# EAGLE library part WEH002002ALPP (library 000_nl2)
Winstar OLED Display This is a 20x2 OLED display from Winstar described here <http://www.winstar.com.tw/products_detail_ov.php?lang=en&ProID=289>. It can be purchased from Rapid Online here <http://www.rapidonline.com/electronic-components/20x2-oled-display-yellow-57-2300>. This variant is used to view the display through a milled window in the PCB.
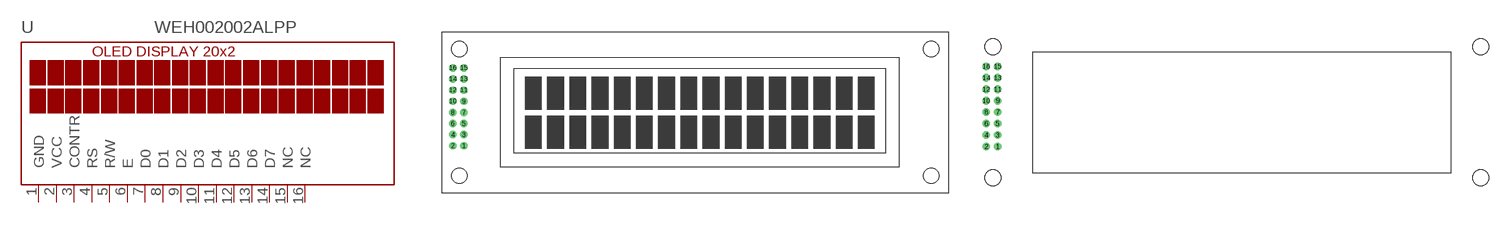
[diagram p19: symbol with the pads of 20X02_OLED_DISPLAY; footprints 20X02_OLED_DISPLAY, 20X02_OLED_DISPLAY_CUTOUT]

Designator prefix -

## WEH002002ALPP_TOP  [20X02_OLED_DISPLAY]
1  GND  pwr
2  VCC  pwr
3  CONTR  in
4  RS  in
5  R/W  in
6  E  in
7  D0  in
8  D1  in
9  D2  in
10  D3  in
11  D4  in
12  D5  in
13  D6  in
14  D7  in
15  NC  nc
16  NC  nc

## WEH002002ALPP_BOTTOM  [20X02_OLED_DISPLAY_CUTOUT]
Pads as for 20X02_OLED_DISPLAY

## Footprint 20X02_OLED_DISPLAY (pad centres in mm)
drill 0.9 pad 1.676: 1 5.04,10.88; 2 2.5,10.88; 3 5.04,13.42; 4 2.5,13.42; 5 5.04,15.96; 6 2.5,15.96; 7 5.04,18.5; 8 2.5,18.5; 9 5.04,21.04; 10 2.5,21.04; 11 5.04,23.58; 12 2.5,23.58; 13 5.04,26.12; 14 2.5,26.12; 15 5.04,28.66; 16 2.5,28.66
hole 3.5 at 4,4
hole 3.5 at 112,4
hole 3.5 at 4,33
hole 3.5 at 112,33

## Footprint 20X02_OLED_DISPLAY_CUTOUT (pad centres in mm)
drill 0.9 pad 1.676: 1 5.04,10.88; 2 2.5,10.88; 3 5.04,13.42; 4 2.5,13.42; 5 5.04,15.96; 6 2.5,15.96; 7 5.04,18.5; 8 2.5,18.5; 9 5.04,21.04; 10 2.5,21.04; 11 5.04,23.58; 12 2.5,23.58; 13 5.04,26.12; 14 2.5,26.12; 15 5.04,28.66; 16 2.5,28.66
hole 3.5 at 4,4
hole 3.5 at 112,4
hole 3.5 at 4,33
hole 3.5 at 112,33